# Altium schematic symbol library MAX22707AUB+.SchLib: 1 symbol
Pins are listed as number, name and electrical type; pins without a type are passive.

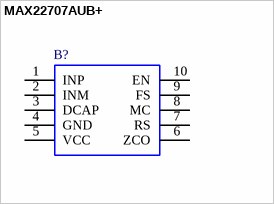
[diagram p0: symbol MAX22707AUB+]

## MAX22707AUB+
designator B?
Low Power, Integrated Zero Crossing Detector with ?1% Accuracy; Manufacturer_Name: Maxim Integrated; Geometry.Height: 1.1mm; Mouser Part Number: 700-MAX22707AUB+; Mouser Price/Stock: https://www.mouser.co.uk/ProductDetail/Maxim-Integrated/MAX22707AUB%2b?qs=Li%252BoUPsLEnsUyRa6BXLUlw%3D%3D; Manufacturer_Part_Number: MAX22707AUB+; Datasheet Link: http://www.maximintegrated.com/MAX22707
footprint SOP50P490X110-10N
pins: 1 INP, 2 INM, 3 DCAP, 4 GND, 5 VCC, 6 ZCO, 7 RS, 8 MC, 9 FS, 10 EN